# EAGLE library part WE-MLS_4LINES (library Wurth_EMC Components_WE-MLS)
WE-MLS Multiline EMI Suppression Ferrite Characteristics High impedance common mode inductor with 2x2 windings made by PCB line connection High rated current with typ. 4 A Broadband filtering because of the NiZn-ferrite core RF common mode inductor for 2, 3 or 4 lines in one component Compact size Operating temperature: –25 ºC to +125 ºC With the appropriate layout the impedance (i.e. 4 windings) respectively the current (parallel circuit) could be increased Applications Perfect suitable for absorption of common or differential mode interferences in the field of EMC With one turn the component performes like a 3 or 4 times common mode choke for the signal Multi-conductor systems and power electronics Filtering components of low voltage power supplies 4-line sensor application <https://www.we-online.com/katalog/media/o14821v209%20Family_WE-MLS.jpg> Details see: https://www.we-online.com/catalog/en/WE-MLS? Updated by Ella Wu 2021-05-07 2021(C) Wurth Elektronik
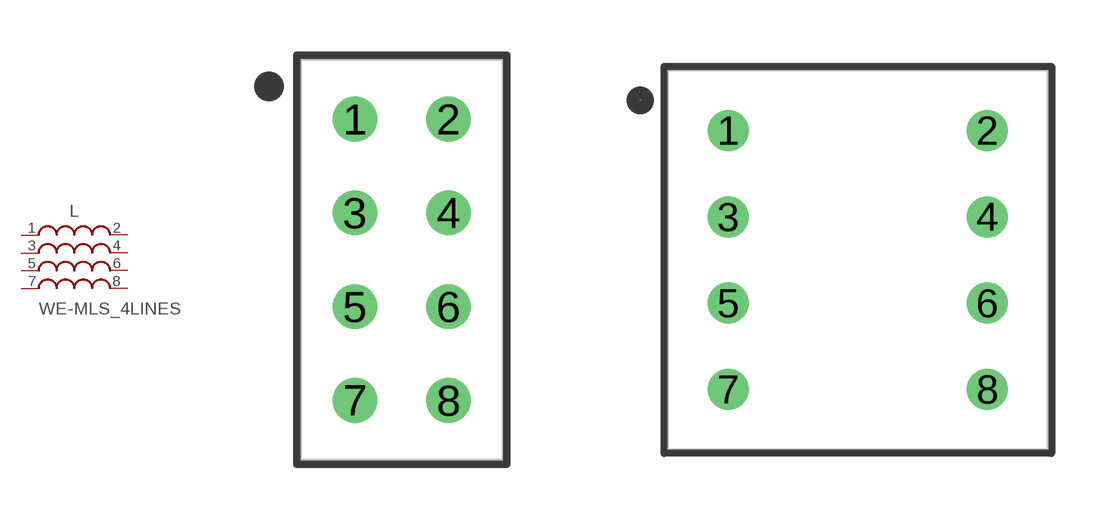
[diagram p1: symbol with the pads of WE-MLS_74273002; footprints WE-MLS_74273002, WE-MLS_742730021]

Designator prefix L

## WE-MLS_4LINES_74273002 (DATASHEET-URL: https://www.we-online.com/catalog/datasheet/74273002.pdf; IR: 4A; MOUNT: THT; PART-NUMBER: 74273002; RDC-MAX: 2mohm; TYPE: 4 Lines; VALUE: 249Ohm@100MHz; Z: 209Ohm@25MHz)  [WE-MLS_74273002]
1  1  pas
2  2  pas
3  3  pas
4  4  pas
5  5  pas
6  6  pas
7  7  pas
8  8  pas

## WE-MLS_4LINES_742730021 (DATASHEET-URL: https://www.we-online.com/catalog/datasheet/742730021.pdf; IR: 4A; MOUNT: THT; PART-NUMBER: 742730021; RDC-MAX: 2mohm; TYPE: 4 Lines; VALUE: 170Ohm@100MHz; Z: 136Ohm@25MHz)  [WE-MLS_742730021]
Pads as for WE-MLS_74273002

## WE-MLS_4LINES_742730022 (DATASHEET-URL: https://www.we-online.com/catalog/datasheet/742730022.pdf; IR: 4A; MOUNT: THT; PART-NUMBER: 742730022; RDC-MAX: 2mohm; TYPE: 4 Lines; VALUE: 248Ohm@100MHz; Z: 208Ohm@25MHz)  [WE-MLS_742730022]
Pads as for WE-MLS_74273002

## WE-MLS_4LINES_742730023 (DATASHEET-URL: https://www.we-online.com/catalog/datasheet/742730023.pdf; IR: 4A; MOUNT: THT; PART-NUMBER: 742730023; RDC-MAX: 2mohm; TYPE: 4 Lines; VALUE: 334Ohm@100MHz; Z: 292Ohm@25MHz)  [WE-MLS_742730023]
Pads as for WE-MLS_74273002

## WE-MLS_4LINES_742730321 (DATASHEET-URL: https://www.we-online.com/catalog/datasheet/742730321.pdf; IR: 4A; MOUNT: THT; PART-NUMBER: 742730321; RDC-MAX: 2mohm; TYPE: 4 Lines; VALUE: 150Ohm@100MHz; Z: 115Ohm@25MHz)  [WE-MLS_742730321]
Pads as for WE-MLS_74273002

## WE-MLS_4LINES_74273012 (DATASHEET-URL: https://www.we-online.com/catalog/datasheet/74273012.pdf; IR: 4A; MOUNT: THT; PART-NUMBER: 74273012; RDC-MAX: 2mohm; TYPE: 4 Lines; VALUE: 249Ohm@100MHz; Z: 209Ohm@25MHz)  [WE-MLS_74273012]
Pads as for WE-MLS_74273002

## WE-MLS_4LINES_742730123 (DATASHEET-URL: https://www.we-online.com/catalog/datasheet/742730123.pdf; IR: 4A; MOUNT: THT; PART-NUMBER: 742730123; RDC-MAX: 2mohm; TYPE: 4 Lines; VALUE: 334Ohm@100MHz; Z: 292Ohm@25MHz)  [WE-MLS_742730123]
Pads as for WE-MLS_74273002

## WE-MLS_4LINES_742730223 (DATASHEET-URL: https://www.we-online.com/catalog/datasheet/742730223.pdf; IR: 4A; MOUNT: THT; PART-NUMBER: 742730223; RDC-MAX: 2mohm; TYPE: 4 Lines; VALUE: 334Ohm@100MHz; Z: 292Ohm@25MHz)  [WE-MLS_742730223]
Pads as for WE-MLS_74273002

## Footprint WE-MLS_74273002 (pad centres in mm)
WE-MLS Multiline EMI Suppression Ferrite 4 Lines
drill 0.7: 1 -1.27,3.81; 2 1.27,3.81; 3 -1.27,1.27; 4 1.27,1.27; 5 -1.27,-1.27; 6 1.27,-1.27; 7 -1.27,-3.81; 8 1.27,-3.81

## Footprint WE-MLS_742730021 (pad centres in mm)
WE-MLS Multiline EMI Suppression Ferrite 4 Lines
drill 0.7: 1 -3.81,3.81; 2 3.81,3.81; 3 -3.81,1.27; 4 3.81,1.27; 5 -3.81,-1.27; 6 3.81,-1.27; 7 -3.81,-3.81; 8 3.81,-3.81

## Footprint WE-MLS_742730022 (pad centres in mm)
WE-MLS Multiline EMI Suppression Ferrite 4 Lines
drill 0.7: 1 -3.81,3.81; 2 3.81,3.81; 3 -3.81,1.27; 4 3.81,1.27; 5 -3.81,-1.27; 6 3.81,-1.27; 7 -3.81,-3.81; 8 3.81,-3.81

## Footprint WE-MLS_742730023 (pad centres in mm)
WE-MLS Multiline EMI Suppression Ferrite 4 Lines
drill 0.7: 1 -3.81,3.81; 2 3.81,3.81; 3 -3.81,1.27; 4 3.81,1.27; 5 -3.81,-1.27; 6 3.81,-1.27; 7 -3.81,-3.81; 8 3.81,-3.81

## Footprint WE-MLS_742730321 (pad centres in mm)
WE-MLS Multiline EMI Suppression Ferrite 4 Lines
drill 0.9: 1 -3.81,3.81; 2 3.81,3.81; 3 -3.81,1.27; 4 3.81,1.27; 5 -3.81,-1.27; 6 3.81,-1.27; 7 -3.81,-3.81; 8 3.81,-3.81

## Footprint WE-MLS_74273012 (pad centres in mm)
WE-MLS Multiline EMI Suppression Ferrite 4 Lines
drill 0.7: 1 -1.27,3.81; 2 1.27,3.81; 3 -1.27,1.27; 4 1.27,1.27; 5 -1.27,-1.27; 6 1.27,-1.27; 7 -1.27,-3.81; 8 1.27,-3.81

## Footprint WE-MLS_742730123 (pad centres in mm)
WE-MLS Multiline EMI Suppression Ferrite 4 Lines
drill 0.7: 1 -3.81,3.81; 2 3.81,3.81; 3 -3.81,1.27; 4 3.81,1.27; 5 -3.81,-1.27; 6 3.81,-1.27; 7 -3.81,-3.81; 8 3.81,-3.81

## Footprint WE-MLS_742730223 (pad centres in mm)
WE-MLS Multiline EMI Suppression Ferrite 4 Lines
drill 0.7: 1 -3.81,3.81; 2 3.81,3.81; 3 -3.81,1.27; 4 3.81,1.27; 5 -3.81,-1.27; 6 3.81,-1.27; 7 -3.81,-3.81; 8 3.81,-3.81